# Altium schematic symbol library CONN2.Schlib: 1 symbol
Pins are listed as number, name and electrical type; pins without a type are passive.

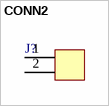
[diagram p0: symbol CONN2]

## CONN2
designator J?
footprint CONN1X2B
pins: 1, 2
2 alternate drawings of the same symbol